# Altium schematic symbol library kmilo17pet-LT_PMIC_LT.SchLib: 2252 symbols (part 25 of 124)
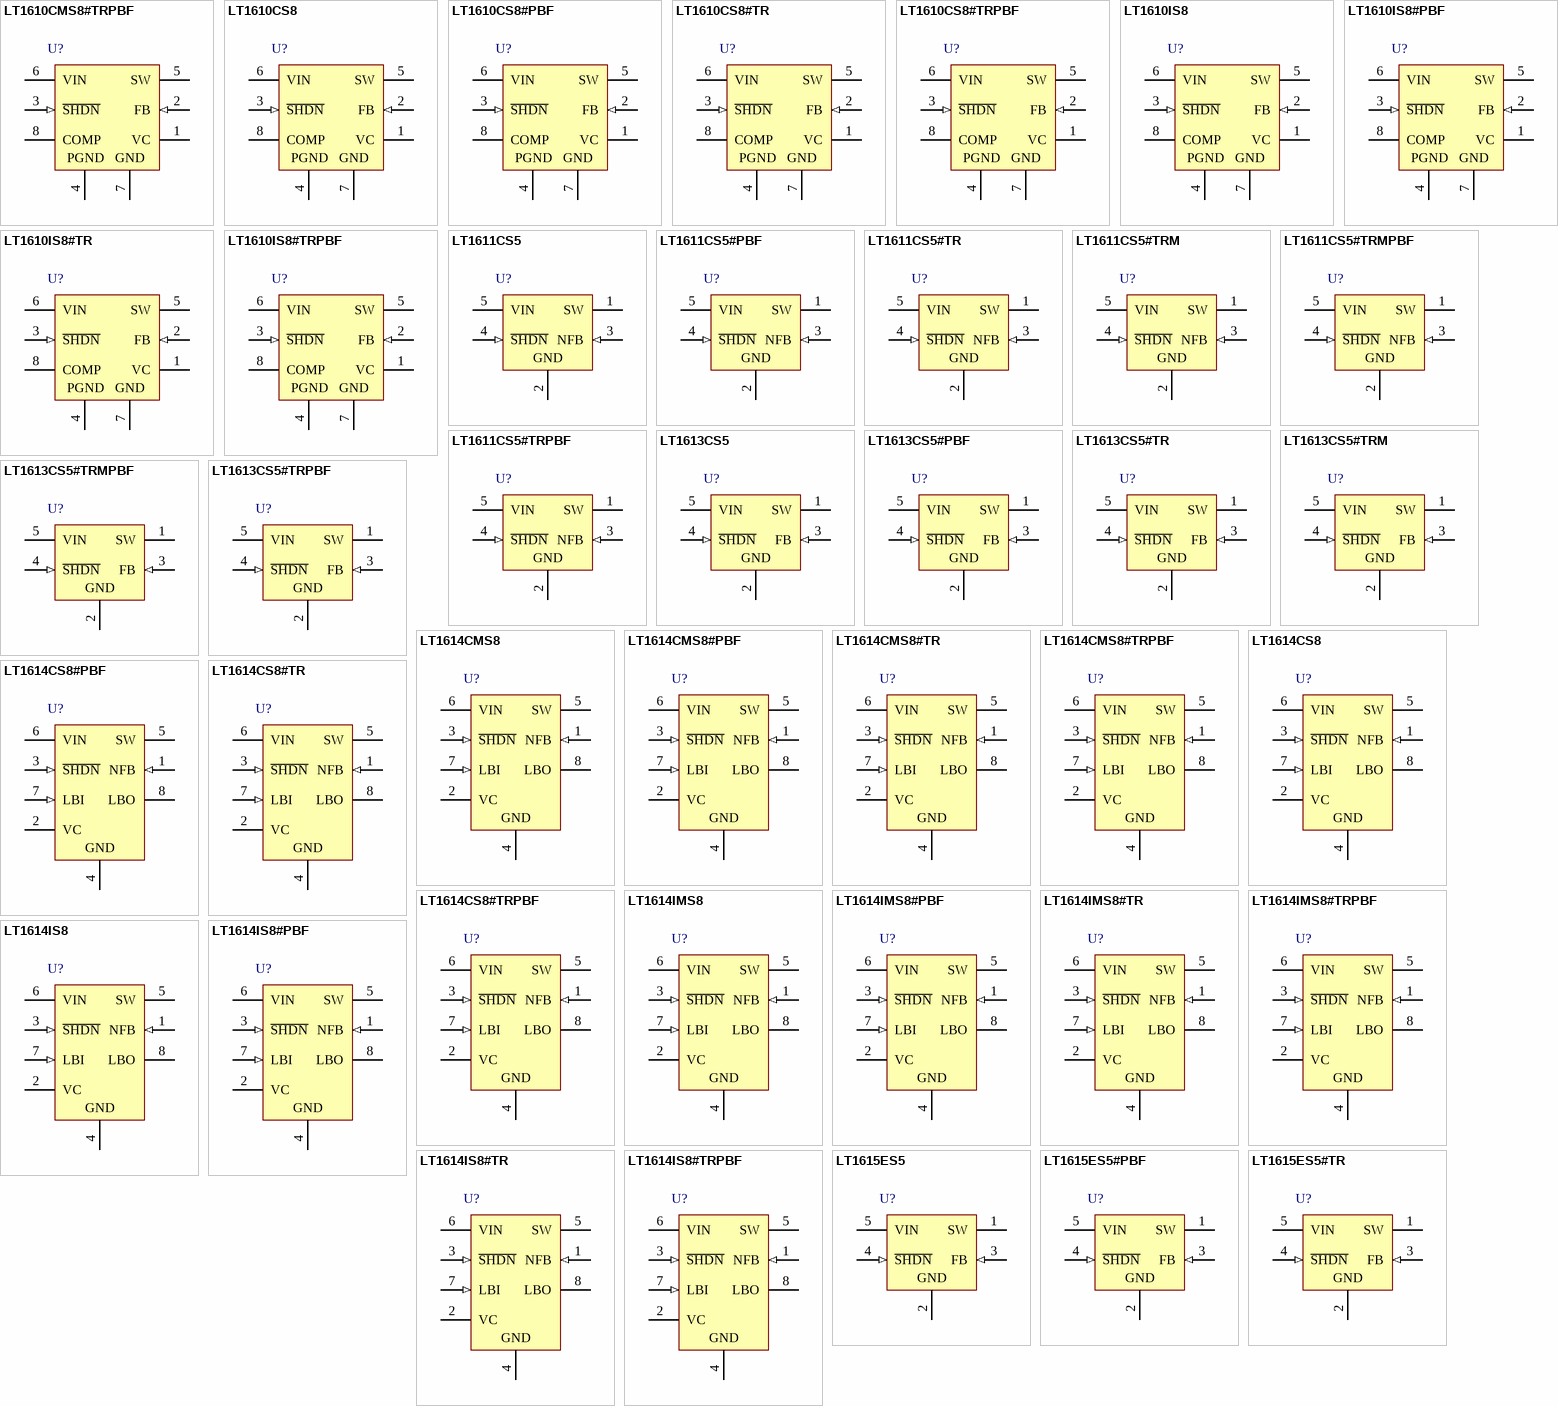
[diagram p95: symbols LT1610CMS8#TRPBF to LT1615ES5#TR]

## LT1614CS8#TR
designator U?
Inverting 600 KHz Switching Regulator, 8-pin SOIC (S8-8), 0 to 70 degc, Tape and Reel; Manufacturer: Linear Technology; PartNumber: LT1614CS8#TR; Number of Outputs: 1; PackageReference: S8-8; PackageDescription: 8-Pin Plastic Small Outline (Narrow .150 Inch), Body 4.9 x 3.9 mm, Pitch 1.27 mm; Supplier 1: Digi-Key; Supplier Part Number 1: LT1614CS8#TR-ND; RoHS: FALSE
footprint LT-S8-8_N (SOIC, 8-Leads, Body 5x4mm, Pitch 1.27mm, IPC Medium Density)
footprint LT-S8-8_L (SOIC, 8-Leads, Body 5x4mm, Pitch 1.27mm, IPC High Density)
footprint LT-S8-8_M (SOIC, 8-Leads, Body 5x4mm, Pitch 1.27mm, IPC Low Density)
pins: 1 NFB (in) "Negative Feedback Pin. Reference voltage is -1.24V. Connect resistive divider tap here. The suggested value for R2 is 24.9k.", 2 VC "Compensation Pin for Error Amplifier. Connect a series RC from this pin to ground. Typical values are 100k ohm and 1nF. Minimize trace area at VC.", 3 ~{SHDN} (in) "Shutdown. Ground this pin to turn off switcher. Must be tied to VIN (or higher voltage) to enable switcher. Do not float the S\H\D\N\ pin.", 4 GND (power) "Ground. Connect directly to local ground plane.", 5 SW (power) "Switch Pin. Minimize trace area at this pin to keep EMI down.", 6 VIN (power) "Supply Pin. Must have 1uF ceramic bypass capacitor right at the pin, connected directly to ground.", 7 LBI (in) "Low-Battery Detector Input. 200mV reference. Voltage on LBI must stay between ground and 700mV. Float this pin if not used.", 8 LBO (hiz) "Low-Battery Detector Output. Open collector, can sink 10uA. A 1Mohm pull-up is recommended. Float this pin if not used. The low-battery detector is disabled when S\H\D\N\ is low. LBO is high-Z in this state."

## LT1614CS8#TRPBF
designator U?
Inverting 600 KHz Switching Regulator, 8-pin SOIC (S8-8), 0 to 70 degc, Pb-Free, Tape and Reel; Manufacturer: Linear Technology; PartNumber: LT1614CS8#TRPBF; Number of Outputs: 1; PackageReference: S8-8; PackageDescription: 8-Pin Plastic Small Outline (Narrow .150 Inch), Body 4.9 x 3.9 mm, Pitch 1.27 mm; Supplier 1: Digi-Key; Supplier Part Number 1: LT1614CS8#TRPBF-ND; RoHS: TRUE
footprint LT-S8-8_N (SOIC, 8-Leads, Body 5x4mm, Pitch 1.27mm, IPC Medium Density)
footprint LT-S8-8_L (SOIC, 8-Leads, Body 5x4mm, Pitch 1.27mm, IPC High Density)
footprint LT-S8-8_M (SOIC, 8-Leads, Body 5x4mm, Pitch 1.27mm, IPC Low Density)
pins: 1 NFB (in) "Negative Feedback Pin. Reference voltage is -1.24V. Connect resistive divider tap here. The suggested value for R2 is 24.9k.", 2 VC "Compensation Pin for Error Amplifier. Connect a series RC from this pin to ground. Typical values are 100k ohm and 1nF. Minimize trace area at VC.", 3 ~{SHDN} (in) "Shutdown. Ground this pin to turn off switcher. Must be tied to VIN (or higher voltage) to enable switcher. Do not float the S\H\D\N\ pin.", 4 GND (power) "Ground. Connect directly to local ground plane.", 5 SW (power) "Switch Pin. Minimize trace area at this pin to keep EMI down.", 6 VIN (power) "Supply Pin. Must have 1uF ceramic bypass capacitor right at the pin, connected directly to ground.", 7 LBI (in) "Low-Battery Detector Input. 200mV reference. Voltage on LBI must stay between ground and 700mV. Float this pin if not used.", 8 LBO (hiz) "Low-Battery Detector Output. Open collector, can sink 10uA. A 1Mohm pull-up is recommended. Float this pin if not used. The low-battery detector is disabled when S\H\D\N\ is low. LBO is high-Z in this state."

## LT1614IMS8
designator U?
Inverting 600 KHz Switching Regulator, 8-pin SOP (MS8-8), -40 to 85 degC; Manufacturer: Linear Technology; PartNumber: LT1614IMS8; Number of Outputs: 1; PackageReference: MS8; PackageDescription: 8-Pin Plastic MSOP, Body 3 x 3 mm, Pitch 0.65 mm; Supplier 1: Digi-Key; Supplier Part Number 1: LT1614IMS8-ND; RoHS: FALSE
footprint LT-MS8_N (SOP, 8-Leads, Body 3.1x3.1mm, Pitch 0.65mm, IPC Medium Density)
footprint LT-MS8_L (SOP, 8-Leads, Body 3.1x3.1mm, Pitch 0.65mm, IPC High Density)
footprint LT-MS8_M (SOP, 8-Leads, Body 3.1x3.1mm, Pitch 0.65mm, IPC Low Density)
pins: 1 NFB (in) "Negative Feedback Pin. Reference voltage is -1.24V. Connect resistive divider tap here. The suggested value for R2 is 24.9k.", 2 VC "Compensation Pin for Error Amplifier. Connect a series RC from this pin to ground. Typical values are 100k ohm and 1nF. Minimize trace area at VC.", 3 ~{SHDN} (in) "Shutdown. Ground this pin to turn off switcher. Must be tied to VIN (or higher voltage) to enable switcher. Do not float the S\H\D\N\ pin.", 4 GND (power) "Ground. Connect directly to local ground plane.", 5 SW (power) "Switch Pin. Minimize trace area at this pin to keep EMI down.", 6 VIN (power) "Supply Pin. Must have 1uF ceramic bypass capacitor right at the pin, connected directly to ground.", 7 LBI (in) "Low-Battery Detector Input. 200mV reference. Voltage on LBI must stay between ground and 700mV. Float this pin if not used.", 8 LBO (hiz) "Low-Battery Detector Output. Open collector, can sink 10uA. A 1Mohm pull-up is recommended. Float this pin if not used. The low-battery detector is disabled when S\H\D\N\ is low. LBO is high-Z in this state."

## LT1614IMS8#PBF
designator U?
Inverting 600 KHz Switching Regulator, 8-pin SOP (MS8-8), -40 to 85 degC, Pb-Free; Manufacturer: Linear Technology; PartNumber: LT1614IMS8#PBF; Number of Outputs: 1; PackageReference: MS8; PackageDescription: 8-Pin Plastic MSOP, Body 3 x 3 mm, Pitch 0.65 mm; Supplier 1: Digi-Key; Supplier Part Number 1: LT1614IMS8#PBF-ND; RoHS: TRUE
footprint LT-MS8_N (SOP, 8-Leads, Body 3.1x3.1mm, Pitch 0.65mm, IPC Medium Density)
footprint LT-MS8_L (SOP, 8-Leads, Body 3.1x3.1mm, Pitch 0.65mm, IPC High Density)
footprint LT-MS8_M (SOP, 8-Leads, Body 3.1x3.1mm, Pitch 0.65mm, IPC Low Density)
pins: 1 NFB (in) "Negative Feedback Pin. Reference voltage is -1.24V. Connect resistive divider tap here. The suggested value for R2 is 24.9k.", 2 VC "Compensation Pin for Error Amplifier. Connect a series RC from this pin to ground. Typical values are 100k ohm and 1nF. Minimize trace area at VC.", 3 ~{SHDN} (in) "Shutdown. Ground this pin to turn off switcher. Must be tied to VIN (or higher voltage) to enable switcher. Do not float the S\H\D\N\ pin.", 4 GND (power) "Ground. Connect directly to local ground plane.", 5 SW (power) "Switch Pin. Minimize trace area at this pin to keep EMI down.", 6 VIN (power) "Supply Pin. Must have 1uF ceramic bypass capacitor right at the pin, connected directly to ground.", 7 LBI (in) "Low-Battery Detector Input. 200mV reference. Voltage on LBI must stay between ground and 700mV. Float this pin if not used.", 8 LBO (hiz) "Low-Battery Detector Output. Open collector, can sink 10uA. A 1Mohm pull-up is recommended. Float this pin if not used. The low-battery detector is disabled when S\H\D\N\ is low. LBO is high-Z in this state."

## LT1614IMS8#TR
designator U?
Inverting 600 KHz Switching Regulator, 8-pin SOP (MS8-8), -40 to 85 degC, Tape and Reel; Manufacturer: Linear Technology; PartNumber: LT1614IMS8#TR; Number of Outputs: 1; PackageReference: MS8; PackageDescription: 8-Pin Plastic MSOP, Body 3 x 3 mm, Pitch 0.65 mm; Supplier 1: Digi-Key; Supplier Part Number 1: LT1614IMS8TR-ND; RoHS: FALSE
footprint LT-MS8_N (SOP, 8-Leads, Body 3.1x3.1mm, Pitch 0.65mm, IPC Medium Density)
footprint LT-MS8_L (SOP, 8-Leads, Body 3.1x3.1mm, Pitch 0.65mm, IPC High Density)
footprint LT-MS8_M (SOP, 8-Leads, Body 3.1x3.1mm, Pitch 0.65mm, IPC Low Density)
pins: 1 NFB (in) "Negative Feedback Pin. Reference voltage is -1.24V. Connect resistive divider tap here. The suggested value for R2 is 24.9k.", 2 VC "Compensation Pin for Error Amplifier. Connect a series RC from this pin to ground. Typical values are 100k ohm and 1nF. Minimize trace area at VC.", 3 ~{SHDN} (in) "Shutdown. Ground this pin to turn off switcher. Must be tied to VIN (or higher voltage) to enable switcher. Do not float the S\H\D\N\ pin.", 4 GND (power) "Ground. Connect directly to local ground plane.", 5 SW (power) "Switch Pin. Minimize trace area at this pin to keep EMI down.", 6 VIN (power) "Supply Pin. Must have 1uF ceramic bypass capacitor right at the pin, connected directly to ground.", 7 LBI (in) "Low-Battery Detector Input. 200mV reference. Voltage on LBI must stay between ground and 700mV. Float this pin if not used.", 8 LBO (hiz) "Low-Battery Detector Output. Open collector, can sink 10uA. A 1Mohm pull-up is recommended. Float this pin if not used. The low-battery detector is disabled when S\H\D\N\ is low. LBO is high-Z in this state."

## LT1614IMS8#TRPBF
designator U?
Inverting 600 KHz Switching Regulator, 8-pin SOP (MS8-8), -40 to 85 degC, Pb-Free, Tape and Reel; Manufacturer: Linear Technology; PartNumber: LT1614IMS8#TRPBF; Number of Outputs: 1; PackageReference: MS8; PackageDescription: 8-Pin Plastic MSOP, Body 3 x 3 mm, Pitch 0.65 mm; Supplier 1: Digi-Key; Supplier Part Number 1: LT1614IMS8#TRPBF-ND; RoHS: TRUE
footprint LT-MS8_N (SOP, 8-Leads, Body 3.1x3.1mm, Pitch 0.65mm, IPC Medium Density)
footprint LT-MS8_L (SOP, 8-Leads, Body 3.1x3.1mm, Pitch 0.65mm, IPC High Density)
footprint LT-MS8_M (SOP, 8-Leads, Body 3.1x3.1mm, Pitch 0.65mm, IPC Low Density)
pins: 1 NFB (in) "Negative Feedback Pin. Reference voltage is -1.24V. Connect resistive divider tap here. The suggested value for R2 is 24.9k.", 2 VC "Compensation Pin for Error Amplifier. Connect a series RC from this pin to ground. Typical values are 100k ohm and 1nF. Minimize trace area at VC.", 3 ~{SHDN} (in) "Shutdown. Ground this pin to turn off switcher. Must be tied to VIN (or higher voltage) to enable switcher. Do not float the S\H\D\N\ pin.", 4 GND (power) "Ground. Connect directly to local ground plane.", 5 SW (power) "Switch Pin. Minimize trace area at this pin to keep EMI down.", 6 VIN (power) "Supply Pin. Must have 1uF ceramic bypass capacitor right at the pin, connected directly to ground.", 7 LBI (in) "Low-Battery Detector Input. 200mV reference. Voltage on LBI must stay between ground and 700mV. Float this pin if not used.", 8 LBO (hiz) "Low-Battery Detector Output. Open collector, can sink 10uA. A 1Mohm pull-up is recommended. Float this pin if not used. The low-battery detector is disabled when S\H\D\N\ is low. LBO is high-Z in this state."

## LT1614IS8
designator U?
Inverting 600 KHz Switching Regulator, 8-pin SOIC (S8-8), -40 to 85 degC; Manufacturer: Linear Technology; PartNumber: LT1614IS8; Number of Outputs: 1; PackageReference: S8-8; PackageDescription: 8-Pin Plastic Small Outline (Narrow .150 Inch), Body 4.9 x 3.9 mm, Pitch 1.27 mm; Supplier 1: Digi-Key; Supplier Part Number 1: LT1614IS8-ND; RoHS: FALSE
footprint LT-S8-8_N (SOIC, 8-Leads, Body 5x4mm, Pitch 1.27mm, IPC Medium Density)
footprint LT-S8-8_L (SOIC, 8-Leads, Body 5x4mm, Pitch 1.27mm, IPC High Density)
footprint LT-S8-8_M (SOIC, 8-Leads, Body 5x4mm, Pitch 1.27mm, IPC Low Density)
pins: 1 NFB (in) "Negative Feedback Pin. Reference voltage is -1.24V. Connect resistive divider tap here. The suggested value for R2 is 24.9k.", 2 VC "Compensation Pin for Error Amplifier. Connect a series RC from this pin to ground. Typical values are 100k ohm and 1nF. Minimize trace area at VC.", 3 ~{SHDN} (in) "Shutdown. Ground this pin to turn off switcher. Must be tied to VIN (or higher voltage) to enable switcher. Do not float the S\H\D\N\ pin.", 4 GND (power) "Ground. Connect directly to local ground plane.", 5 SW (power) "Switch Pin. Minimize trace area at this pin to keep EMI down.", 6 VIN (power) "Supply Pin. Must have 1uF ceramic bypass capacitor right at the pin, connected directly to ground.", 7 LBI (in) "Low-Battery Detector Input. 200mV reference. Voltage on LBI must stay between ground and 700mV. Float this pin if not used.", 8 LBO (hiz) "Low-Battery Detector Output. Open collector, can sink 10uA. A 1Mohm pull-up is recommended. Float this pin if not used. The low-battery detector is disabled when S\H\D\N\ is low. LBO is high-Z in this state."

## LT1614IS8#PBF
designator U?
Inverting 600 KHz Switching Regulator, 8-pin SOIC (S8-8), -40 to 85 degC, Pb-Free; Manufacturer: Linear Technology; PartNumber: LT1614IS8#PBF; Number of Outputs: 1; PackageReference: S8-8; PackageDescription: 8-Pin Plastic Small Outline (Narrow .150 Inch), Body 4.9 x 3.9 mm, Pitch 1.27 mm; Supplier 1: Digi-Key; Supplier Part Number 1: LT1614IS8#PBF-ND; RoHS: TRUE
footprint LT-S8-8_N (SOIC, 8-Leads, Body 5x4mm, Pitch 1.27mm, IPC Medium Density)
footprint LT-S8-8_L (SOIC, 8-Leads, Body 5x4mm, Pitch 1.27mm, IPC High Density)
footprint LT-S8-8_M (SOIC, 8-Leads, Body 5x4mm, Pitch 1.27mm, IPC Low Density)
pins: 1 NFB (in) "Negative Feedback Pin. Reference voltage is -1.24V. Connect resistive divider tap here. The suggested value for R2 is 24.9k.", 2 VC "Compensation Pin for Error Amplifier. Connect a series RC from this pin to ground. Typical values are 100k ohm and 1nF. Minimize trace area at VC.", 3 ~{SHDN} (in) "Shutdown. Ground this pin to turn off switcher. Must be tied to VIN (or higher voltage) to enable switcher. Do not float the S\H\D\N\ pin.", 4 GND (power) "Ground. Connect directly to local ground plane.", 5 SW (power) "Switch Pin. Minimize trace area at this pin to keep EMI down.", 6 VIN (power) "Supply Pin. Must have 1uF ceramic bypass capacitor right at the pin, connected directly to ground.", 7 LBI (in) "Low-Battery Detector Input. 200mV reference. Voltage on LBI must stay between ground and 700mV. Float this pin if not used.", 8 LBO (hiz) "Low-Battery Detector Output. Open collector, can sink 10uA. A 1Mohm pull-up is recommended. Float this pin if not used. The low-battery detector is disabled when S\H\D\N\ is low. LBO is high-Z in this state."

## LT1614IS8#TR
designator U?
Inverting 600 KHz Switching Regulator, 8-pin SOIC (S8-8), -40 to 85 degC, Tape and Reel; Manufacturer: Linear Technology; PartNumber: LT1614IS8#TR; Number of Outputs: 1; PackageReference: S8-8; PackageDescription: 8-Pin Plastic Small Outline (Narrow .150 Inch), Body 4.9 x 3.9 mm, Pitch 1.27 mm; Supplier 1: Digi-Key; Supplier Part Number 1: LT1614IS8#TR-ND; RoHS: FALSE
footprint LT-S8-8_N (SOIC, 8-Leads, Body 5x4mm, Pitch 1.27mm, IPC Medium Density)
footprint LT-S8-8_L (SOIC, 8-Leads, Body 5x4mm, Pitch 1.27mm, IPC High Density)
footprint LT-S8-8_M (SOIC, 8-Leads, Body 5x4mm, Pitch 1.27mm, IPC Low Density)
pins: 1 NFB (in) "Negative Feedback Pin. Reference voltage is -1.24V. Connect resistive divider tap here. The suggested value for R2 is 24.9k.", 2 VC "Compensation Pin for Error Amplifier. Connect a series RC from this pin to ground. Typical values are 100k ohm and 1nF. Minimize trace area at VC.", 3 ~{SHDN} (in) "Shutdown. Ground this pin to turn off switcher. Must be tied to VIN (or higher voltage) to enable switcher. Do not float the S\H\D\N\ pin.", 4 GND (power) "Ground. Connect directly to local ground plane.", 5 SW (power) "Switch Pin. Minimize trace area at this pin to keep EMI down.", 6 VIN (power) "Supply Pin. Must have 1uF ceramic bypass capacitor right at the pin, connected directly to ground.", 7 LBI (in) "Low-Battery Detector Input. 200mV reference. Voltage on LBI must stay between ground and 700mV. Float this pin if not used.", 8 LBO (hiz) "Low-Battery Detector Output. Open collector, can sink 10uA. A 1Mohm pull-up is recommended. Float this pin if not used. The low-battery detector is disabled when S\H\D\N\ is low. LBO is high-Z in this state."

## LT1614IS8#TRPBF
designator U?
Inverting 600 KHz Switching Regulator, 8-pin SOIC (S8-8), -40 to 85 degC, Pb-Free, Tape and Reel; Manufacturer: Linear Technology; PartNumber: LT1614IS8#TRPBF; Number of Outputs: 1; PackageReference: S8-8; PackageDescription: 8-Pin Plastic Small Outline (Narrow .150 Inch), Body 4.9 x 3.9 mm, Pitch 1.27 mm; Supplier 1: Digi-Key; Supplier Part Number 1: LT1614IS8#TRPBF-ND; RoHS: TRUE
footprint LT-S8-8_N (SOIC, 8-Leads, Body 5x4mm, Pitch 1.27mm, IPC Medium Density)
footprint LT-S8-8_L (SOIC, 8-Leads, Body 5x4mm, Pitch 1.27mm, IPC High Density)
footprint LT-S8-8_M (SOIC, 8-Leads, Body 5x4mm, Pitch 1.27mm, IPC Low Density)
pins: 1 NFB (in) "Negative Feedback Pin. Reference voltage is -1.24V. Connect resistive divider tap here. The suggested value for R2 is 24.9k.", 2 VC "Compensation Pin for Error Amplifier. Connect a series RC from this pin to ground. Typical values are 100k ohm and 1nF. Minimize trace area at VC.", 3 ~{SHDN} (in) "Shutdown. Ground this pin to turn off switcher. Must be tied to VIN (or higher voltage) to enable switcher. Do not float the S\H\D\N\ pin.", 4 GND (power) "Ground. Connect directly to local ground plane.", 5 SW (power) "Switch Pin. Minimize trace area at this pin to keep EMI down.", 6 VIN (power) "Supply Pin. Must have 1uF ceramic bypass capacitor right at the pin, connected directly to ground.", 7 LBI (in) "Low-Battery Detector Input. 200mV reference. Voltage on LBI must stay between ground and 700mV. Float this pin if not used.", 8 LBO (hiz) "Low-Battery Detector Output. Open collector, can sink 10uA. A 1Mohm pull-up is recommended. Float this pin if not used. The low-battery detector is disabled when S\H\D\N\ is low. LBO is high-Z in this state."

## LT1615ES5
designator U?
Micropower Step-Up DC/DC Converter, 5-pin SOT23 (S5-5), -40 to 85 degC; Manufacturer: Linear Technology; PartNumber: LT1615ES5; Number of Outputs: 1; PackageReference: S5-5; PackageDescription: 5-Pin Plastic TSOT-23, Body 1.63 x 2.90 mm, Pitch 0.95 mm; RoHS: FALSE
footprint LT-S5-5-TSOT-23_N (SOT23, 5-Leads, Body 2.90x1.63mm, Pitch 0.95mm, IPC Medium Density)
footprint LT-S5-5-TSOT-23_L (SOT23, 5-Leads, Body 2.90x1.63mm, Pitch 0.95mm, IPC High Density)
footprint LT-S5-5-TSOT-23_M (SOT23, 5-Leads, Body 2.90x1.63mm, Pitch 0.95mm, IPC Low Density)
pins: 1 SW (power) "Switch Pin. Connect inductor/diode here. Minimize trace at this pin to reduce EMI.", 2 GND (power) "Ground Pin. Tie directly to local ground plane.", 3 FB (in) "Feedback Pin.", 4 ~{SHDN} (in) "Shutdown Pin.", 5 VIN (power) "Input Supply Pin. Must be locally bypassed."

## LT1615ES5#PBF
designator U?
Micropower Step-Up DC/DC Converter, 5-pin SOT23 (S5-5), -40 to 85 degC, Pb-Free; Manufacturer: Linear Technology; PartNumber: LT1615ES5#PBF; Number of Outputs: 1; PackageReference: S5-5; PackageDescription: 5-Pin Plastic TSOT-23, Body 1.63 x 2.90 mm, Pitch 0.95 mm; Supplier 1: Farnell; Supplier Part Number 1: 1531485; RoHS: TRUE
footprint LT-S5-5-TSOT-23_N (SOT23, 5-Leads, Body 2.90x1.63mm, Pitch 0.95mm, IPC Medium Density)
footprint LT-S5-5-TSOT-23_L (SOT23, 5-Leads, Body 2.90x1.63mm, Pitch 0.95mm, IPC High Density)
footprint LT-S5-5-TSOT-23_M (SOT23, 5-Leads, Body 2.90x1.63mm, Pitch 0.95mm, IPC Low Density)
pins: 1 SW (power) "Switch Pin. Connect inductor/diode here. Minimize trace at this pin to reduce EMI.", 2 GND (power) "Ground Pin. Tie directly to local ground plane.", 3 FB (in) "Feedback Pin.", 4 ~{SHDN} (in) "Shutdown Pin.", 5 VIN (power) "Input Supply Pin. Must be locally bypassed."

## LT1615ES5#TR
designator U?
Micropower Step-Up DC/DC Converter, 5-pin SOT23 (S5-5), -40 to 85 degC, Tape and Reel; Manufacturer: Linear Technology; PartNumber: LT1615ES5#TR; Number of Outputs: 1; PackageReference: S5-5; PackageDescription: 5-Pin Plastic TSOT-23, Body 1.63 x 2.90 mm, Pitch 0.95 mm; Supplier 1: Digi-Key; Supplier Part Number 1: LT1615ES5#TR-ND; RoHS: FALSE
footprint LT-S5-5-TSOT-23_N (SOT23, 5-Leads, Body 2.90x1.63mm, Pitch 0.95mm, IPC Medium Density)
footprint LT-S5-5-TSOT-23_L (SOT23, 5-Leads, Body 2.90x1.63mm, Pitch 0.95mm, IPC High Density)
footprint LT-S5-5-TSOT-23_M (SOT23, 5-Leads, Body 2.90x1.63mm, Pitch 0.95mm, IPC Low Density)
pins: 1 SW (power) "Switch Pin. Connect inductor/diode here. Minimize trace at this pin to reduce EMI.", 2 GND (power) "Ground Pin. Tie directly to local ground plane.", 3 FB (in) "Feedback Pin.", 4 ~{SHDN} (in) "Shutdown Pin.", 5 VIN (power) "Input Supply Pin. Must be locally bypassed."

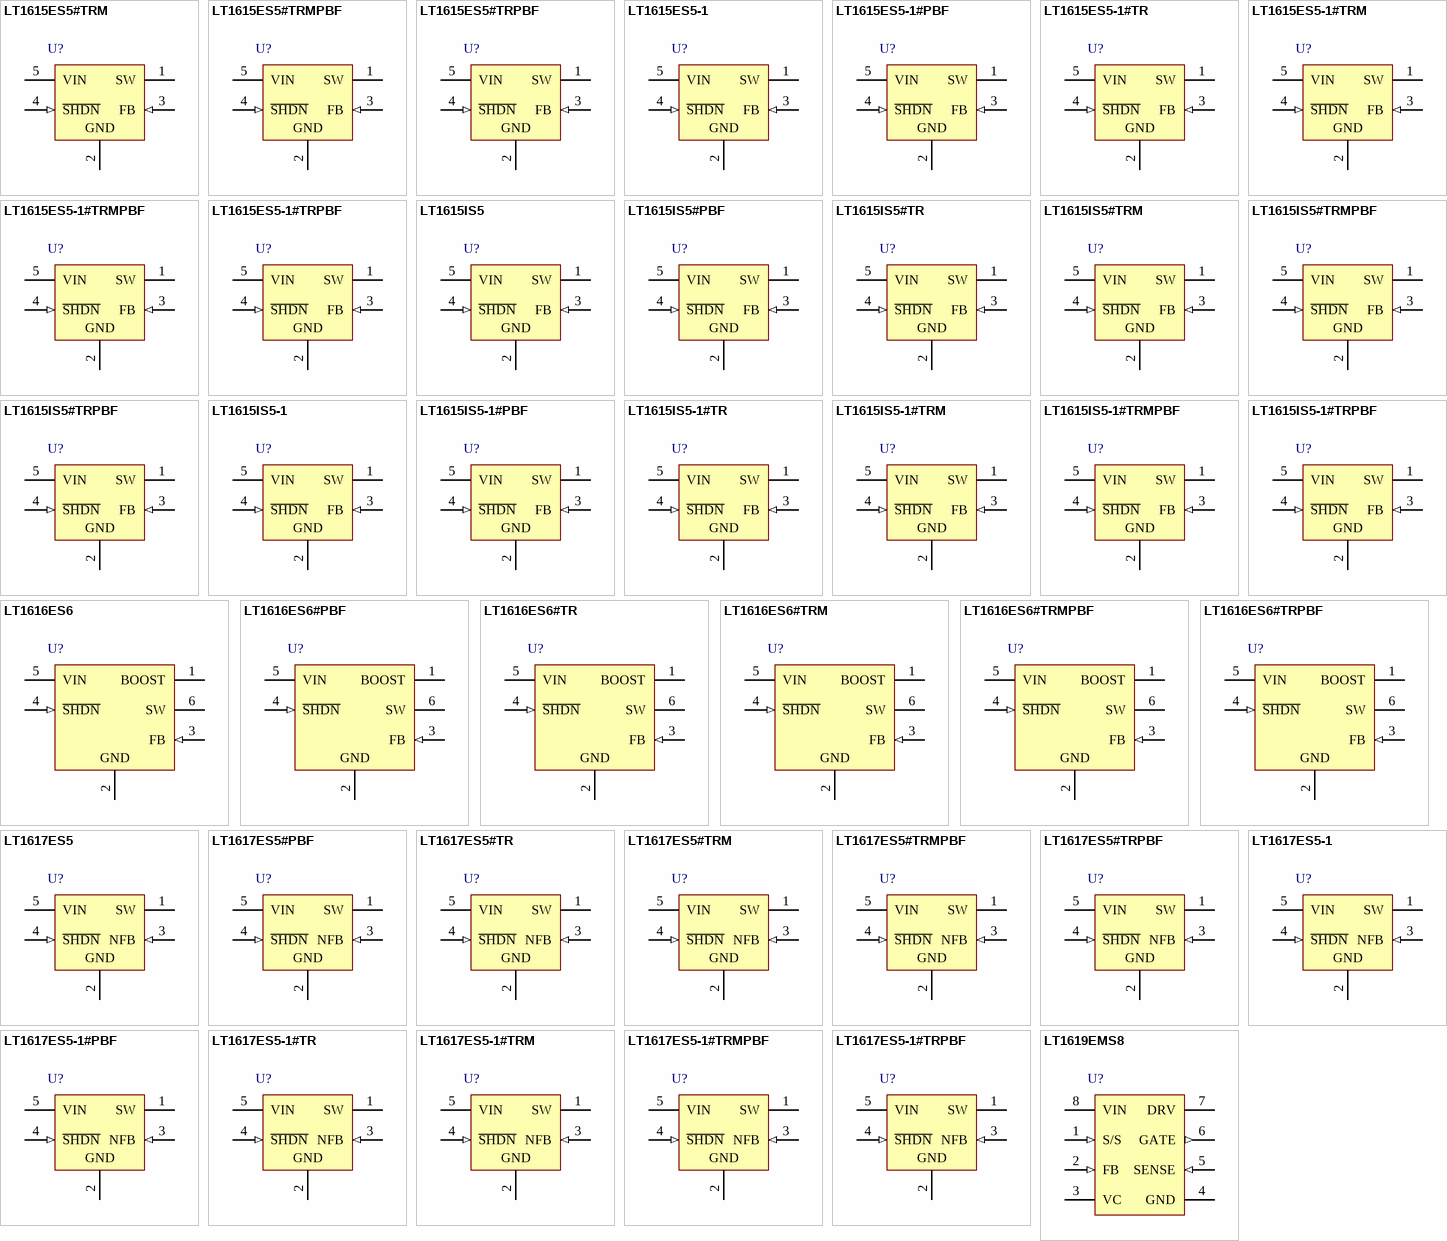
[diagram p17: symbols LT1615ES5#TRM to LT1619EMS8]

## LT1615ES5#TRM
designator U?
Micropower Step-Up DC/DC Converter, 5-pin SOT23 (S5-5), -40 to 85 degC, Mini Tape and Reel; Manufacturer: Linear Technology; PartNumber: LT1615ES5#TRM; Number of Outputs: 1; PackageReference: S5-5; PackageDescription: 5-Pin Plastic TSOT-23, Body 1.63 x 2.90 mm, Pitch 0.95 mm; Supplier 1: Digi-Key; Supplier Part Number 1: LT1615ES5#TRMTR-ND; RoHS: FALSE
footprint LT-S5-5-TSOT-23_N (SOT23, 5-Leads, Body 2.90x1.63mm, Pitch 0.95mm, IPC Medium Density)
footprint LT-S5-5-TSOT-23_L (SOT23, 5-Leads, Body 2.90x1.63mm, Pitch 0.95mm, IPC High Density)
footprint LT-S5-5-TSOT-23_M (SOT23, 5-Leads, Body 2.90x1.63mm, Pitch 0.95mm, IPC Low Density)
pins: 1 SW (power) "Switch Pin. Connect inductor/diode here. Minimize trace at this pin to reduce EMI.", 2 GND (power) "Ground Pin. Tie directly to local ground plane.", 3 FB (in) "Feedback Pin.", 4 ~{SHDN} (in) "Shutdown Pin.", 5 VIN (power) "Input Supply Pin. Must be locally bypassed."

## LT1615ES5#TRMPBF
designator U?
Micropower Step-Up DC/DC Converter, 5-pin SOT23 (S5-5), -40 to 85 degC, Pb-Free, Mini Tape and Reel; Manufacturer: Linear Technology; PartNumber: LT1615ES5#TRMPBF; Number of Outputs: 1; PackageReference: S5-5; PackageDescription: 5-Pin Plastic TSOT-23, Body 1.63 x 2.90 mm, Pitch 0.95 mm; Supplier 1: Digi-Key; Supplier Part Number 1: LT1615ES5#TRMPBFTR-ND; RoHS: TRUE
footprint LT-S5-5-TSOT-23_N (SOT23, 5-Leads, Body 2.90x1.63mm, Pitch 0.95mm, IPC Medium Density)
footprint LT-S5-5-TSOT-23_L (SOT23, 5-Leads, Body 2.90x1.63mm, Pitch 0.95mm, IPC High Density)
footprint LT-S5-5-TSOT-23_M (SOT23, 5-Leads, Body 2.90x1.63mm, Pitch 0.95mm, IPC Low Density)
pins: 1 SW (power) "Switch Pin. Connect inductor/diode here. Minimize trace at this pin to reduce EMI.", 2 GND (power) "Ground Pin. Tie directly to local ground plane.", 3 FB (in) "Feedback Pin.", 4 ~{SHDN} (in) "Shutdown Pin.", 5 VIN (power) "Input Supply Pin. Must be locally bypassed."

## LT1615ES5#TRPBF
designator U?
Micropower Step-Up DC/DC Converter, 5-pin SOT23 (S5-5), -40 to 85 degC, Pb-Free, Tape and Reel; Manufacturer: Linear Technology; PartNumber: LT1615ES5#TRPBF; Number of Outputs: 1; PackageReference: S5-5; PackageDescription: 5-Pin Plastic TSOT-23, Body 1.63 x 2.90 mm, Pitch 0.95 mm; Supplier 1: Digi-Key; Supplier Part Number 1: LT1615ES5#TRPBF-ND; RoHS: TRUE
footprint LT-S5-5-TSOT-23_N (SOT23, 5-Leads, Body 2.90x1.63mm, Pitch 0.95mm, IPC Medium Density)
footprint LT-S5-5-TSOT-23_L (SOT23, 5-Leads, Body 2.90x1.63mm, Pitch 0.95mm, IPC High Density)
footprint LT-S5-5-TSOT-23_M (SOT23, 5-Leads, Body 2.90x1.63mm, Pitch 0.95mm, IPC Low Density)
pins: 1 SW (power) "Switch Pin. Connect inductor/diode here. Minimize trace at this pin to reduce EMI.", 2 GND (power) "Ground Pin. Tie directly to local ground plane.", 3 FB (in) "Feedback Pin.", 4 ~{SHDN} (in) "Shutdown Pin.", 5 VIN (power) "Input Supply Pin. Must be locally bypassed."

## LT1615ES5-1
designator U?
Micropower Step-Up DC/DC Converter, 5-pin SOT23 (S5-5), -40 to 85 degC; Manufacturer: Linear Technology; PartNumber: LT1615ES5-1; Number of Outputs: 1; PackageReference: S5-5; PackageDescription: 5-Pin Plastic TSOT-23, Body 1.63 x 2.90 mm, Pitch 0.95 mm; RoHS: FALSE
footprint LT-S5-5-TSOT-23_N (SOT23, 5-Leads, Body 2.90x1.63mm, Pitch 0.95mm, IPC Medium Density)
footprint LT-S5-5-TSOT-23_L (SOT23, 5-Leads, Body 2.90x1.63mm, Pitch 0.95mm, IPC High Density)
footprint LT-S5-5-TSOT-23_M (SOT23, 5-Leads, Body 2.90x1.63mm, Pitch 0.95mm, IPC Low Density)
pins: 1 SW (power) "Switch Pin. Connect inductor/diode here. Minimize trace at this pin to reduce EMI.", 2 GND (power) "Ground Pin. Tie directly to local ground plane.", 3 FB (in) "Feedback Pin.", 4 ~{SHDN} (in) "Shutdown Pin.", 5 VIN (power) "Input Supply Pin. Must be locally bypassed."

## LT1615ES5-1#PBF
designator U?
Micropower Step-Up DC/DC Converter, 5-pin SOT23 (S5-5), -40 to 85 degC, Pb-Free; Manufacturer: Linear Technology; PartNumber: LT1615ES5-1#PBF; Number of Outputs: 1; PackageReference: S5-5; PackageDescription: 5-Pin Plastic TSOT-23, Body 1.63 x 2.90 mm, Pitch 0.95 mm; Supplier 1: Farnell; Supplier Part Number 1: 1531484; RoHS: TRUE
footprint LT-S5-5-TSOT-23_N (SOT23, 5-Leads, Body 2.90x1.63mm, Pitch 0.95mm, IPC Medium Density)
footprint LT-S5-5-TSOT-23_L (SOT23, 5-Leads, Body 2.90x1.63mm, Pitch 0.95mm, IPC High Density)
footprint LT-S5-5-TSOT-23_M (SOT23, 5-Leads, Body 2.90x1.63mm, Pitch 0.95mm, IPC Low Density)
pins: 1 SW (power) "Switch Pin. Connect inductor/diode here. Minimize trace at this pin to reduce EMI.", 2 GND (power) "Ground Pin. Tie directly to local ground plane.", 3 FB (in) "Feedback Pin.", 4 ~{SHDN} (in) "Shutdown Pin.", 5 VIN (power) "Input Supply Pin. Must be locally bypassed."

## LT1615ES5-1#TR
designator U?
Micropower Step-Up DC/DC Converter, 5-pin SOT23 (S5-5), -40 to 85 degC, Tape and Reel; Manufacturer: Linear Technology; PartNumber: LT1615ES5-1#TR; Number of Outputs: 1; PackageReference: S5-5; PackageDescription: 5-Pin Plastic TSOT-23, Body 1.63 x 2.90 mm, Pitch 0.95 mm; Supplier 1: Digi-Key; Supplier Part Number 1: LT1615ES5-1#TR-ND; RoHS: FALSE
footprint LT-S5-5-TSOT-23_N (SOT23, 5-Leads, Body 2.90x1.63mm, Pitch 0.95mm, IPC Medium Density)
footprint LT-S5-5-TSOT-23_L (SOT23, 5-Leads, Body 2.90x1.63mm, Pitch 0.95mm, IPC High Density)
footprint LT-S5-5-TSOT-23_M (SOT23, 5-Leads, Body 2.90x1.63mm, Pitch 0.95mm, IPC Low Density)
pins: 1 SW (power) "Switch Pin. Connect inductor/diode here. Minimize trace at this pin to reduce EMI.", 2 GND (power) "Ground Pin. Tie directly to local ground plane.", 3 FB (in) "Feedback Pin.", 4 ~{SHDN} (in) "Shutdown Pin.", 5 VIN (power) "Input Supply Pin. Must be locally bypassed."

## LT1615ES5-1#TRM
designator U?
Micropower Step-Up DC/DC Converter, 5-pin SOT23 (S5-5), -40 to 85 degC, Mini Tape and Reel; Manufacturer: Linear Technology; PartNumber: LT1615ES5-1#TRM; Number of Outputs: 1; PackageReference: S5-5; PackageDescription: 5-Pin Plastic TSOT-23, Body 1.63 x 2.90 mm, Pitch 0.95 mm; Supplier 1: Digi-Key; Supplier Part Number 1: LT1615ES5-1#TRM-ND; RoHS: FALSE
footprint LT-S5-5-TSOT-23_N (SOT23, 5-Leads, Body 2.90x1.63mm, Pitch 0.95mm, IPC Medium Density)
footprint LT-S5-5-TSOT-23_L (SOT23, 5-Leads, Body 2.90x1.63mm, Pitch 0.95mm, IPC High Density)
footprint LT-S5-5-TSOT-23_M (SOT23, 5-Leads, Body 2.90x1.63mm, Pitch 0.95mm, IPC Low Density)
pins: 1 SW (power) "Switch Pin. Connect inductor/diode here. Minimize trace at this pin to reduce EMI.", 2 GND (power) "Ground Pin. Tie directly to local ground plane.", 3 FB (in) "Feedback Pin.", 4 ~{SHDN} (in) "Shutdown Pin.", 5 VIN (power) "Input Supply Pin. Must be locally bypassed."

## LT1615ES5-1#TRMPBF
designator U?
Micropower Step-Up DC/DC Converter, 5-pin SOT23 (S5-5), -40 to 85 degC, Pb-Free, Mini Tape and Reel; Manufacturer: Linear Technology; PartNumber: LT1615ES5-1#TRMPBF; Number of Outputs: 1; PackageReference: S5-5; PackageDescription: 5-Pin Plastic TSOT-23, Body 1.63 x 2.90 mm, Pitch 0.95 mm; Supplier 1: Digi-Key; Supplier Part Number 1: LT1615ES5-1#TRMPBFTR-ND; RoHS: TRUE
footprint LT-S5-5-TSOT-23_N (SOT23, 5-Leads, Body 2.90x1.63mm, Pitch 0.95mm, IPC Medium Density)
footprint LT-S5-5-TSOT-23_L (SOT23, 5-Leads, Body 2.90x1.63mm, Pitch 0.95mm, IPC High Density)
footprint LT-S5-5-TSOT-23_M (SOT23, 5-Leads, Body 2.90x1.63mm, Pitch 0.95mm, IPC Low Density)
pins: 1 SW (power) "Switch Pin. Connect inductor/diode here. Minimize trace at this pin to reduce EMI.", 2 GND (power) "Ground Pin. Tie directly to local ground plane.", 3 FB (in) "Feedback Pin.", 4 ~{SHDN} (in) "Shutdown Pin.", 5 VIN (power) "Input Supply Pin. Must be locally bypassed."

## LT1615ES5-1#TRPBF
designator U?
Micropower Step-Up DC/DC Converter, 5-pin SOT23 (S5-5), -40 to 85 degC, Pb-Free, Tape and Reel; Manufacturer: Linear Technology; PartNumber: LT1615ES5-1#TRPBF; Number of Outputs: 1; PackageReference: S5-5; PackageDescription: 5-Pin Plastic TSOT-23, Body 1.63 x 2.90 mm, Pitch 0.95 mm; Supplier 1: Digi-Key; Supplier Part Number 1: LT1615ES5-1#TRPBF-ND; RoHS: TRUE
footprint LT-S5-5-TSOT-23_N (SOT23, 5-Leads, Body 2.90x1.63mm, Pitch 0.95mm, IPC Medium Density)
footprint LT-S5-5-TSOT-23_L (SOT23, 5-Leads, Body 2.90x1.63mm, Pitch 0.95mm, IPC High Density)
footprint LT-S5-5-TSOT-23_M (SOT23, 5-Leads, Body 2.90x1.63mm, Pitch 0.95mm, IPC Low Density)
pins: 1 SW (power) "Switch Pin. Connect inductor/diode here. Minimize trace at this pin to reduce EMI.", 2 GND (power) "Ground Pin. Tie directly to local ground plane.", 3 FB (in) "Feedback Pin.", 4 ~{SHDN} (in) "Shutdown Pin.", 5 VIN (power) "Input Supply Pin. Must be locally bypassed."

## LT1615IS5
designator U?
Micropower Step-Up DC/DC Converter, 5-pin SOT23 (S5-5), -40 to 85 degC; Manufacturer: Linear Technology; PartNumber: LT1615IS5; Number of Outputs: 1; PackageReference: S5-5; PackageDescription: 5-Pin Plastic TSOT-23, Body 1.63 x 2.90 mm, Pitch 0.95 mm; RoHS: FALSE
footprint LT-S5-5-TSOT-23_N (SOT23, 5-Leads, Body 2.90x1.63mm, Pitch 0.95mm, IPC Medium Density)
footprint LT-S5-5-TSOT-23_L (SOT23, 5-Leads, Body 2.90x1.63mm, Pitch 0.95mm, IPC High Density)
footprint LT-S5-5-TSOT-23_M (SOT23, 5-Leads, Body 2.90x1.63mm, Pitch 0.95mm, IPC Low Density)
pins: 1 SW (power) "Switch Pin. Connect inductor/diode here. Minimize trace at this pin to reduce EMI.", 2 GND (power) "Ground Pin. Tie directly to local ground plane.", 3 FB (in) "Feedback Pin.", 4 ~{SHDN} (in) "Shutdown Pin.", 5 VIN (power) "Input Supply Pin. Must be locally bypassed."

## LT1615IS5#PBF
designator U?
Micropower Step-Up DC/DC Converter, 5-pin SOT23 (S5-5), -40 to 85 degC, Pb-Free; Manufacturer: Linear Technology; PartNumber: LT1615IS5#PBF; Number of Outputs: 1; PackageReference: S5-5; PackageDescription: 5-Pin Plastic TSOT-23, Body 1.63 x 2.90 mm, Pitch 0.95 mm; Supplier 1: Farnell; Supplier Part Number 1: 2308179; RoHS: TRUE
footprint LT-S5-5-TSOT-23_N (SOT23, 5-Leads, Body 2.90x1.63mm, Pitch 0.95mm, IPC Medium Density)
footprint LT-S5-5-TSOT-23_L (SOT23, 5-Leads, Body 2.90x1.63mm, Pitch 0.95mm, IPC High Density)
footprint LT-S5-5-TSOT-23_M (SOT23, 5-Leads, Body 2.90x1.63mm, Pitch 0.95mm, IPC Low Density)
pins: 1 SW (power) "Switch Pin. Connect inductor/diode here. Minimize trace at this pin to reduce EMI.", 2 GND (power) "Ground Pin. Tie directly to local ground plane.", 3 FB (in) "Feedback Pin.", 4 ~{SHDN} (in) "Shutdown Pin.", 5 VIN (power) "Input Supply Pin. Must be locally bypassed."

## LT1615IS5#TR
designator U?
Micropower Step-Up DC/DC Converter, 5-pin SOT23 (S5-5), -40 to 85 degC, Tape and Reel; Manufacturer: Linear Technology; PartNumber: LT1615IS5#TR; Number of Outputs: 1; PackageReference: S5-5; PackageDescription: 5-Pin Plastic TSOT-23, Body 1.63 x 2.90 mm, Pitch 0.95 mm; Supplier 1: Digi-Key; Supplier Part Number 1: LT1615IS5TR-ND; RoHS: FALSE
footprint LT-S5-5-TSOT-23_N (SOT23, 5-Leads, Body 2.90x1.63mm, Pitch 0.95mm, IPC Medium Density)
footprint LT-S5-5-TSOT-23_L (SOT23, 5-Leads, Body 2.90x1.63mm, Pitch 0.95mm, IPC High Density)
footprint LT-S5-5-TSOT-23_M (SOT23, 5-Leads, Body 2.90x1.63mm, Pitch 0.95mm, IPC Low Density)
pins: 1 SW (power) "Switch Pin. Connect inductor/diode here. Minimize trace at this pin to reduce EMI.", 2 GND (power) "Ground Pin. Tie directly to local ground plane.", 3 FB (in) "Feedback Pin.", 4 ~{SHDN} (in) "Shutdown Pin.", 5 VIN (power) "Input Supply Pin. Must be locally bypassed."

## LT1615IS5#TRM
designator U?
Micropower Step-Up DC/DC Converter, 5-pin SOT23 (S5-5), -40 to 85 degC, Mini Tape and Reel; Manufacturer: Linear Technology; PartNumber: LT1615IS5#TRM; Number of Outputs: 1; PackageReference: S5-5; PackageDescription: 5-Pin Plastic TSOT-23, Body 1.63 x 2.90 mm, Pitch 0.95 mm; Supplier 1: Digi-Key; Supplier Part Number 1: LT1615IS5#TRMTR-ND; RoHS: FALSE
footprint LT-S5-5-TSOT-23_N (SOT23, 5-Leads, Body 2.90x1.63mm, Pitch 0.95mm, IPC Medium Density)
footprint LT-S5-5-TSOT-23_L (SOT23, 5-Leads, Body 2.90x1.63mm, Pitch 0.95mm, IPC High Density)
footprint LT-S5-5-TSOT-23_M (SOT23, 5-Leads, Body 2.90x1.63mm, Pitch 0.95mm, IPC Low Density)
pins: 1 SW (power) "Switch Pin. Connect inductor/diode here. Minimize trace at this pin to reduce EMI.", 2 GND (power) "Ground Pin. Tie directly to local ground plane.", 3 FB (in) "Feedback Pin.", 4 ~{SHDN} (in) "Shutdown Pin.", 5 VIN (power) "Input Supply Pin. Must be locally bypassed."

## LT1615IS5#TRMPBF
designator U?
Micropower Step-Up DC/DC Converter, 5-pin SOT23 (S5-5), -40 to 85 degC, Pb-Free, Mini Tape and Reel; Manufacturer: Linear Technology; PartNumber: LT1615IS5#TRMPBF; Number of Outputs: 1; PackageReference: S5-5; PackageDescription: 5-Pin Plastic TSOT-23, Body 1.63 x 2.90 mm, Pitch 0.95 mm; Supplier 1: Digi-Key; Supplier Part Number 1: LT1615IS5#TRMPBFTR-ND; RoHS: TRUE
footprint LT-S5-5-TSOT-23_N (SOT23, 5-Leads, Body 2.90x1.63mm, Pitch 0.95mm, IPC Medium Density)
footprint LT-S5-5-TSOT-23_L (SOT23, 5-Leads, Body 2.90x1.63mm, Pitch 0.95mm, IPC High Density)
footprint LT-S5-5-TSOT-23_M (SOT23, 5-Leads, Body 2.90x1.63mm, Pitch 0.95mm, IPC Low Density)
pins: 1 SW (power) "Switch Pin. Connect inductor/diode here. Minimize trace at this pin to reduce EMI.", 2 GND (power) "Ground Pin. Tie directly to local ground plane.", 3 FB (in) "Feedback Pin.", 4 ~{SHDN} (in) "Shutdown Pin.", 5 VIN (power) "Input Supply Pin. Must be locally bypassed."

## LT1615IS5#TRPBF
designator U?
Micropower Step-Up DC/DC Converter, 5-pin SOT23 (S5-5), -40 to 85 degC, Pb-Free, Tape and Reel; Manufacturer: Linear Technology; PartNumber: LT1615IS5#TRPBF; Number of Outputs: 1; PackageReference: S5-5; PackageDescription: 5-Pin Plastic TSOT-23, Body 1.63 x 2.90 mm, Pitch 0.95 mm; Supplier 1: Digi-Key; Supplier Part Number 1: LT1615IS5#TRPBF-ND; RoHS: TRUE
footprint LT-S5-5-TSOT-23_N (SOT23, 5-Leads, Body 2.90x1.63mm, Pitch 0.95mm, IPC Medium Density)
footprint LT-S5-5-TSOT-23_L (SOT23, 5-Leads, Body 2.90x1.63mm, Pitch 0.95mm, IPC High Density)
footprint LT-S5-5-TSOT-23_M (SOT23, 5-Leads, Body 2.90x1.63mm, Pitch 0.95mm, IPC Low Density)
pins: 1 SW (power) "Switch Pin. Connect inductor/diode here. Minimize trace at this pin to reduce EMI.", 2 GND (power) "Ground Pin. Tie directly to local ground plane.", 3 FB (in) "Feedback Pin.", 4 ~{SHDN} (in) "Shutdown Pin.", 5 VIN (power) "Input Supply Pin. Must be locally bypassed."

## LT1615IS5-1
designator U?
Micropower Step-Up DC/DC Converter, 5-pin SOT23 (S5-5), -40 to 85 degC; Manufacturer: Linear Technology; PartNumber: LT1615IS5-1; Number of Outputs: 1; PackageReference: S5-5; PackageDescription: 5-Pin Plastic TSOT-23, Body 1.63 x 2.90 mm, Pitch 0.95 mm; RoHS: FALSE
footprint LT-S5-5-TSOT-23_N (SOT23, 5-Leads, Body 2.90x1.63mm, Pitch 0.95mm, IPC Medium Density)
footprint LT-S5-5-TSOT-23_L (SOT23, 5-Leads, Body 2.90x1.63mm, Pitch 0.95mm, IPC High Density)
footprint LT-S5-5-TSOT-23_M (SOT23, 5-Leads, Body 2.90x1.63mm, Pitch 0.95mm, IPC Low Density)
pins: 1 SW (power) "Switch Pin. Connect inductor/diode here. Minimize trace at this pin to reduce EMI.", 2 GND (power) "Ground Pin. Tie directly to local ground plane.", 3 FB (in) "Feedback Pin.", 4 ~{SHDN} (in) "Shutdown Pin.", 5 VIN (power) "Input Supply Pin. Must be locally bypassed."

## LT1615IS5-1#PBF
designator U?
Micropower Step-Up DC/DC Converter, 5-pin SOT23 (S5-5), -40 to 85 degC, Pb-Free; Manufacturer: Linear Technology; PartNumber: LT1615IS5-1#PBF; Number of Outputs: 1; PackageReference: S5-5; PackageDescription: 5-Pin Plastic TSOT-23, Body 1.63 x 2.90 mm, Pitch 0.95 mm; Supplier 1: Newark; Supplier Part Number 1: 78T3701; RoHS: TRUE
footprint LT-S5-5-TSOT-23_N (SOT23, 5-Leads, Body 2.90x1.63mm, Pitch 0.95mm, IPC Medium Density)
footprint LT-S5-5-TSOT-23_L (SOT23, 5-Leads, Body 2.90x1.63mm, Pitch 0.95mm, IPC High Density)
footprint LT-S5-5-TSOT-23_M (SOT23, 5-Leads, Body 2.90x1.63mm, Pitch 0.95mm, IPC Low Density)
pins: 1 SW (power) "Switch Pin. Connect inductor/diode here. Minimize trace at this pin to reduce EMI.", 2 GND (power) "Ground Pin. Tie directly to local ground plane.", 3 FB (in) "Feedback Pin.", 4 ~{SHDN} (in) "Shutdown Pin.", 5 VIN (power) "Input Supply Pin. Must be locally bypassed."

## LT1615IS5-1#TR
designator U?
Micropower Step-Up DC/DC Converter, 5-pin SOT23 (S5-5), -40 to 85 degC, Tape and Reel; Manufacturer: Linear Technology; PartNumber: LT1615IS5-1#TR; Number of Outputs: 1; PackageReference: S5-5; PackageDescription: 5-Pin Plastic TSOT-23, Body 1.63 x 2.90 mm, Pitch 0.95 mm; Supplier 1: Digi-Key; Supplier Part Number 1: LT1615IS5-1#TR-ND; RoHS: FALSE
footprint LT-S5-5-TSOT-23_N (SOT23, 5-Leads, Body 2.90x1.63mm, Pitch 0.95mm, IPC Medium Density)
footprint LT-S5-5-TSOT-23_L (SOT23, 5-Leads, Body 2.90x1.63mm, Pitch 0.95mm, IPC High Density)
footprint LT-S5-5-TSOT-23_M (SOT23, 5-Leads, Body 2.90x1.63mm, Pitch 0.95mm, IPC Low Density)
pins: 1 SW (power) "Switch Pin. Connect inductor/diode here. Minimize trace at this pin to reduce EMI.", 2 GND (power) "Ground Pin. Tie directly to local ground plane.", 3 FB (in) "Feedback Pin.", 4 ~{SHDN} (in) "Shutdown Pin.", 5 VIN (power) "Input Supply Pin. Must be locally bypassed."

## LT1615IS5-1#TRM
designator U?
Micropower Step-Up DC/DC Converter, 5-pin SOT23 (S5-5), -40 to 85 degC, Mini Tape and Reel; Manufacturer: Linear Technology; PartNumber: LT1615IS5-1#TRM; Number of Outputs: 1; PackageReference: S5-5; PackageDescription: 5-Pin Plastic TSOT-23, Body 1.63 x 2.90 mm, Pitch 0.95 mm; Supplier 1: Digi-Key; Supplier Part Number 1: LT1615IS5-1#TRM-ND; RoHS: FALSE
footprint LT-S5-5-TSOT-23_N (SOT23, 5-Leads, Body 2.90x1.63mm, Pitch 0.95mm, IPC Medium Density)
footprint LT-S5-5-TSOT-23_L (SOT23, 5-Leads, Body 2.90x1.63mm, Pitch 0.95mm, IPC High Density)
footprint LT-S5-5-TSOT-23_M (SOT23, 5-Leads, Body 2.90x1.63mm, Pitch 0.95mm, IPC Low Density)
pins: 1 SW (power) "Switch Pin. Connect inductor/diode here. Minimize trace at this pin to reduce EMI.", 2 GND (power) "Ground Pin. Tie directly to local ground plane.", 3 FB (in) "Feedback Pin.", 4 ~{SHDN} (in) "Shutdown Pin.", 5 VIN (power) "Input Supply Pin. Must be locally bypassed."

## LT1615IS5-1#TRMPBF
designator U?
Micropower Step-Up DC/DC Converter, 5-pin SOT23 (S5-5), -40 to 85 degC, Pb-Free, Mini Tape and Reel; Manufacturer: Linear Technology; PartNumber: LT1615IS5-1#TRMPBF; Number of Outputs: 1; PackageReference: S5-5; PackageDescription: 5-Pin Plastic TSOT-23, Body 1.63 x 2.90 mm, Pitch 0.95 mm; Supplier 1: Digi-Key; Supplier Part Number 1: LT1615IS5-1#TRMPBFTR-ND; RoHS: TRUE
footprint LT-S5-5-TSOT-23_N (SOT23, 5-Leads, Body 2.90x1.63mm, Pitch 0.95mm, IPC Medium Density)
footprint LT-S5-5-TSOT-23_L (SOT23, 5-Leads, Body 2.90x1.63mm, Pitch 0.95mm, IPC High Density)
footprint LT-S5-5-TSOT-23_M (SOT23, 5-Leads, Body 2.90x1.63mm, Pitch 0.95mm, IPC Low Density)
pins: 1 SW (power) "Switch Pin. Connect inductor/diode here. Minimize trace at this pin to reduce EMI.", 2 GND (power) "Ground Pin. Tie directly to local ground plane.", 3 FB (in) "Feedback Pin.", 4 ~{SHDN} (in) "Shutdown Pin.", 5 VIN (power) "Input Supply Pin. Must be locally bypassed."

## LT1615IS5-1#TRPBF
designator U?
Micropower Step-Up DC/DC Converter, 5-pin SOT23 (S5-5), -40 to 85 degC, Pb-Free, Tape and Reel; Manufacturer: Linear Technology; PartNumber: LT1615IS5-1#TRPBF; Number of Outputs: 1; PackageReference: S5-5; PackageDescription: 5-Pin Plastic TSOT-23, Body 1.63 x 2.90 mm, Pitch 0.95 mm; Supplier 1: Digi-Key; Supplier Part Number 1: LT1615IS5-1#TRPBF-ND; RoHS: TRUE
footprint LT-S5-5-TSOT-23_N (SOT23, 5-Leads, Body 2.90x1.63mm, Pitch 0.95mm, IPC Medium Density)
footprint LT-S5-5-TSOT-23_L (SOT23, 5-Leads, Body 2.90x1.63mm, Pitch 0.95mm, IPC High Density)
footprint LT-S5-5-TSOT-23_M (SOT23, 5-Leads, Body 2.90x1.63mm, Pitch 0.95mm, IPC Low Density)
pins: 1 SW (power) "Switch Pin. Connect inductor/diode here. Minimize trace at this pin to reduce EMI.", 2 GND (power) "Ground Pin. Tie directly to local ground plane.", 3 FB (in) "Feedback Pin.", 4 ~{SHDN} (in) "Shutdown Pin.", 5 VIN (power) "Input Supply Pin. Must be locally bypassed."

## LT1616ES6
designator U?
600 mA, 1.4 MHz Step-Down Switching Regulator, 6-pin SOT23 (S6-6), -40 to 85 degC; Manufacturer: Linear Technology; PartNumber: LT1616ES6; Number of Outputs: 1; PackageReference: S6-6; PackageDescription: 6-Pin Plastic SOT-23, Body 1.625 x 2.9 mm, Pitch 0.95 mm; RoHS: FALSE
footprint LT-S6-6-SOT-23_N (SOT23, 6-Leads, Body 3x1.75mm, Pitch 0.95mm, IPC Medium Density)
footprint LT-S6-6-SOT-23_L (SOT23, 6-Leads, Body 3x1.75mm, Pitch 0.95mm, IPC High Density)
footprint LT-S6-6-SOT-23_M (SOT23, 6-Leads, Body 3x1.75mm, Pitch 0.95mm, IPC Low Density)
pins: 1 BOOST "The BOOST pin is used to provide a drive voltage, higher than the input voltage, to the internal bipolar NPN power switch.", 2 GND (power), 3 FB (in), 4 ~{SHDN} (in), 5 VIN (power), 6 SW (power) "The SW pin is the output of the internal power switch. Connect this pin to the inductor, catch diode and boost capacitor."

## LT1616ES6#PBF
designator U?
600 mA, 1.4 MHz Step-Down Switching Regulator, 6-pin SOT23 (S6-6), -40 to 85 degC, Pb-Free; Manufacturer: Linear Technology; PartNumber: LT1616ES6#PBF; Number of Outputs: 1; PackageReference: S6-6; PackageDescription: 6-Pin Plastic SOT-23, Body 1.625 x 2.9 mm, Pitch 0.95 mm; Supplier 1: Newark; Supplier Part Number 1: 61R9525; RoHS: TRUE
footprint LT-S6-6-SOT-23_N (SOT23, 6-Leads, Body 3x1.75mm, Pitch 0.95mm, IPC Medium Density)
footprint LT-S6-6-SOT-23_L (SOT23, 6-Leads, Body 3x1.75mm, Pitch 0.95mm, IPC High Density)
footprint LT-S6-6-SOT-23_M (SOT23, 6-Leads, Body 3x1.75mm, Pitch 0.95mm, IPC Low Density)
pins: 1 BOOST "The BOOST pin is used to provide a drive voltage, higher than the input voltage, to the internal bipolar NPN power switch.", 2 GND (power), 3 FB (in), 4 ~{SHDN} (in), 5 VIN (power), 6 SW (power) "The SW pin is the output of the internal power switch. Connect this pin to the inductor, catch diode and boost capacitor."

## LT1616ES6#TR
designator U?
600 mA, 1.4 MHz Step-Down Switching Regulator, 6-pin SOT23 (S6-6), -40 to 85 degC, Tape and Reel; Manufacturer: Linear Technology; PartNumber: LT1616ES6#TR; Number of Outputs: 1; PackageReference: S6-6; PackageDescription: 6-Pin Plastic SOT-23, Body 1.625 x 2.9 mm, Pitch 0.95 mm; Supplier 1: Digi-Key; Supplier Part Number 1: LT1616ES6#TR-ND; RoHS: FALSE
footprint LT-S6-6-SOT-23_N (SOT23, 6-Leads, Body 3x1.75mm, Pitch 0.95mm, IPC Medium Density)
footprint LT-S6-6-SOT-23_L (SOT23, 6-Leads, Body 3x1.75mm, Pitch 0.95mm, IPC High Density)
footprint LT-S6-6-SOT-23_M (SOT23, 6-Leads, Body 3x1.75mm, Pitch 0.95mm, IPC Low Density)
pins: 1 BOOST "The BOOST pin is used to provide a drive voltage, higher than the input voltage, to the internal bipolar NPN power switch.", 2 GND (power), 3 FB (in), 4 ~{SHDN} (in), 5 VIN (power), 6 SW (power) "The SW pin is the output of the internal power switch. Connect this pin to the inductor, catch diode and boost capacitor."

## LT1616ES6#TRM
designator U?
600 mA, 1.4 MHz Step-Down Switching Regulator, 6-pin SOT23 (S6-6), -40 to 85 degC, Mini Tape and Reel; Manufacturer: Linear Technology; PartNumber: LT1616ES6#TRM; Number of Outputs: 1; PackageReference: S6-6; PackageDescription: 6-Pin Plastic SOT-23, Body 1.625 x 2.9 mm, Pitch 0.95 mm; Supplier 1: Digi-Key; Supplier Part Number 1: LT1616ES6#TRMTR-ND; RoHS: FALSE
footprint LT-S6-6-SOT-23_N (SOT23, 6-Leads, Body 3x1.75mm, Pitch 0.95mm, IPC Medium Density)
footprint LT-S6-6-SOT-23_L (SOT23, 6-Leads, Body 3x1.75mm, Pitch 0.95mm, IPC High Density)
footprint LT-S6-6-SOT-23_M (SOT23, 6-Leads, Body 3x1.75mm, Pitch 0.95mm, IPC Low Density)
pins: 1 BOOST "The BOOST pin is used to provide a drive voltage, higher than the input voltage, to the internal bipolar NPN power switch.", 2 GND (power), 3 FB (in), 4 ~{SHDN} (in), 5 VIN (power), 6 SW (power) "The SW pin is the output of the internal power switch. Connect this pin to the inductor, catch diode and boost capacitor."

## LT1616ES6#TRMPBF
designator U?
600 mA, 1.4 MHz Step-Down Switching Regulator, 6-pin SOT23 (S6-6), -40 to 85 degC, Pb-Free, Mini Tape and Reel; Manufacturer: Linear Technology; PartNumber: LT1616ES6#TRMPBF; Number of Outputs: 1; PackageReference: S6-6; PackageDescription: 6-Pin Plastic SOT-23, Body 1.625 x 2.9 mm, Pitch 0.95 mm; Supplier 1: Digi-Key; Supplier Part Number 1: LT1616ES6#TRMPBFTR-ND; RoHS: TRUE
footprint LT-S6-6-SOT-23_N (SOT23, 6-Leads, Body 3x1.75mm, Pitch 0.95mm, IPC Medium Density)
footprint LT-S6-6-SOT-23_L (SOT23, 6-Leads, Body 3x1.75mm, Pitch 0.95mm, IPC High Density)
footprint LT-S6-6-SOT-23_M (SOT23, 6-Leads, Body 3x1.75mm, Pitch 0.95mm, IPC Low Density)
pins: 1 BOOST "The BOOST pin is used to provide a drive voltage, higher than the input voltage, to the internal bipolar NPN power switch.", 2 GND (power), 3 FB (in), 4 ~{SHDN} (in), 5 VIN (power), 6 SW (power) "The SW pin is the output of the internal power switch. Connect this pin to the inductor, catch diode and boost capacitor."

## LT1616ES6#TRPBF
designator U?
600 mA, 1.4 MHz Step-Down Switching Regulator, 6-pin SOT23 (S6-6), -40 to 85 degC, Pb-Free, Tape and Reel; Manufacturer: Linear Technology; PartNumber: LT1616ES6#TRPBF; Number of Outputs: 1; PackageReference: S6-6; PackageDescription: 6-Pin Plastic SOT-23, Body 1.625 x 2.9 mm, Pitch 0.95 mm; Supplier 1: Digi-Key; Supplier Part Number 1: LT1616ES6#TRPBF-ND; RoHS: TRUE
footprint LT-S6-6-SOT-23_N (SOT23, 6-Leads, Body 3x1.75mm, Pitch 0.95mm, IPC Medium Density)
footprint LT-S6-6-SOT-23_L (SOT23, 6-Leads, Body 3x1.75mm, Pitch 0.95mm, IPC High Density)
footprint LT-S6-6-SOT-23_M (SOT23, 6-Leads, Body 3x1.75mm, Pitch 0.95mm, IPC Low Density)
pins: 1 BOOST "The BOOST pin is used to provide a drive voltage, higher than the input voltage, to the internal bipolar NPN power switch.", 2 GND (power), 3 FB (in), 4 ~{SHDN} (in), 5 VIN (power), 6 SW (power) "The SW pin is the output of the internal power switch. Connect this pin to the inductor, catch diode and boost capacitor."

## LT1617ES5
designator U?
Micropower Inverting DC/DC Converter, 5-pin SOT23 (S5-5), -40 to 85 degC; Manufacturer: Linear Technology; PartNumber: LT1617ES5; Number of Outputs: 1; PackageReference: S5-5; PackageDescription: 5-Pin Plastic SOT-23, Body 1.625 x 2.90 mm, Pitch 0.95 mm; RoHS: FALSE
footprint LT-S5-5-SOT-23_N (SOT23, 5-Leads, Body 3x1.75mm, Pitch 0.95mm, IPC Medium Density)
footprint LT-S5-5-SOT-23_L (SOT23, 5-Leads, Body 3x1.75mm, Pitch 0.95mm, IPC High Density)
footprint LT-S5-5-SOT-23_M (SOT23, 5-Leads, Body 3x1.75mm, Pitch 0.95mm, IPC Low Density)
pins: 1 SW (power) "Switch Pin. Minimize trace area at this pin to keep EMI down.", 2 GND (power) "Ground. Tie directly to local ground plane.", 3 NFB (in) "Negative Feedback Pin.", 4 ~{SHDN} (in) "Shutdown Pin.", 5 VIN (power) "Input Supply Pin. Must be locally bypassed."

## LT1617ES5#PBF
designator U?
Micropower Inverting DC/DC Converter, 5-pin SOT23 (S5-5), -40 to 85 degC, Pb-Free; Manufacturer: Linear Technology; PartNumber: LT1617ES5#PBF; Number of Outputs: 1; PackageReference: S5-5; PackageDescription: 5-Pin Plastic SOT-23, Body 1.625 x 2.90 mm, Pitch 0.95 mm; Supplier 1: Newark; Supplier Part Number 1: 61M3350; RoHS: TRUE
footprint LT-S5-5-SOT-23_N (SOT23, 5-Leads, Body 3x1.75mm, Pitch 0.95mm, IPC Medium Density)
footprint LT-S5-5-SOT-23_L (SOT23, 5-Leads, Body 3x1.75mm, Pitch 0.95mm, IPC High Density)
footprint LT-S5-5-SOT-23_M (SOT23, 5-Leads, Body 3x1.75mm, Pitch 0.95mm, IPC Low Density)
pins: 1 SW (power) "Switch Pin. Minimize trace area at this pin to keep EMI down.", 2 GND (power) "Ground. Tie directly to local ground plane.", 3 NFB (in) "Negative Feedback Pin.", 4 ~{SHDN} (in) "Shutdown Pin.", 5 VIN (power) "Input Supply Pin. Must be locally bypassed."

## LT1617ES5#TR
designator U?
Micropower Inverting DC/DC Converter, 5-pin SOT23 (S5-5), -40 to 85 degC, Tape and Reel; Manufacturer: Linear Technology; PartNumber: LT1617ES5#TR; Number of Outputs: 1; PackageReference: S5-5; PackageDescription: 5-Pin Plastic SOT-23, Body 1.625 x 2.90 mm, Pitch 0.95 mm; Supplier 1: Digi-Key; Supplier Part Number 1: LT1617ES5#TR-ND; RoHS: FALSE
footprint LT-S5-5-SOT-23_N (SOT23, 5-Leads, Body 3x1.75mm, Pitch 0.95mm, IPC Medium Density)
footprint LT-S5-5-SOT-23_L (SOT23, 5-Leads, Body 3x1.75mm, Pitch 0.95mm, IPC High Density)
footprint LT-S5-5-SOT-23_M (SOT23, 5-Leads, Body 3x1.75mm, Pitch 0.95mm, IPC Low Density)
pins: 1 SW (power) "Switch Pin. Minimize trace area at this pin to keep EMI down.", 2 GND (power) "Ground. Tie directly to local ground plane.", 3 NFB (in) "Negative Feedback Pin.", 4 ~{SHDN} (in) "Shutdown Pin.", 5 VIN (power) "Input Supply Pin. Must be locally bypassed."

## LT1617ES5#TRM
designator U?
Micropower Inverting DC/DC Converter, 5-pin SOT23 (S5-5), -40 to 85 degC, Mini Tape and Reel; Manufacturer: Linear Technology; PartNumber: LT1617ES5#TRM; Number of Outputs: 1; PackageReference: S5-5; PackageDescription: 5-Pin Plastic SOT-23, Body 1.625 x 2.90 mm, Pitch 0.95 mm; Supplier 1: Digi-Key; Supplier Part Number 1: LT1617ES5#TRM-ND; RoHS: FALSE
footprint LT-S5-5-SOT-23_N (SOT23, 5-Leads, Body 3x1.75mm, Pitch 0.95mm, IPC Medium Density)
footprint LT-S5-5-SOT-23_L (SOT23, 5-Leads, Body 3x1.75mm, Pitch 0.95mm, IPC High Density)
footprint LT-S5-5-SOT-23_M (SOT23, 5-Leads, Body 3x1.75mm, Pitch 0.95mm, IPC Low Density)
pins: 1 SW (power) "Switch Pin. Minimize trace area at this pin to keep EMI down.", 2 GND (power) "Ground. Tie directly to local ground plane.", 3 NFB (in) "Negative Feedback Pin.", 4 ~{SHDN} (in) "Shutdown Pin.", 5 VIN (power) "Input Supply Pin. Must be locally bypassed."